# Altium schematic symbol library NE555PWR.Schlib: 1 symbol
Pins are listed as number, name and electrical type; pins without a type are passive.

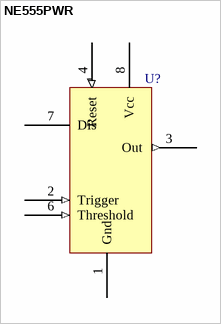
[diagram p0: symbol NE555PWR]

## NE555PWR
designator U?  (value not drawn)
pins: 1 Gnd (power), 2 Trigger (in), 3 Out (out), 4 Reset (in), 6 Threshold (in), 7 Dis, 8 Vcc (power)